# Altium schematic symbol library MBRS130T3G.SchLib: 1 symbol
Pins are listed as number, name and electrical type; pins without a type are passive.

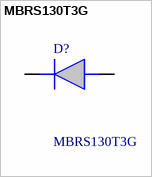
[diagram p0: symbol MBRS130T3G]

## MBRS130T3G
designator D?
Schottky Power Rectifier; Manufacturer_Name: onsemi; Geometry.Height: 2.47mm; Mouser Part Number: 863-MBRS130T3G; Mouser Price/Stock: https://www.mouser.co.uk/ProductDetail/onsemi/MBRS130T3G?qs=3JMERSakebp6is4BTPNy6g%3D%3D; Manufacturer_Part_Number: MBRS130T3G; Datasheet Link: http://www.onsemi.com/pub/Collateral/MBRS130T3-D.PDF
footprint DIOM5436X247N
pins: 1 K, 2 A